# Altium schematic symbol library RES_30.1k_0402.SchLib: 1 symbol
Pins are listed as number, name and electrical type; pins without a type are passive.

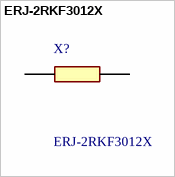
[diagram p0: symbol ERJ-2RKF3012X]

## ERJ-2RKF3012X
designator X?
Panasonic Surface Mount Fixed Resistor 30.1 k 0.1 W +/-100 ppm/C; Geometry.Height: 0.4mm; Manufacturer_Name: Panasonic; Manufacturer_Part_Number: ERJ-2RKF3012X; Mouser Part Number: 667-ERJ-2RKF3012X; Mouser Price/Stock: https://www.mouser.co.uk/ProductDetail/Panasonic/ERJ-2RKF3012X?qs=YMBIwoNQYdWdJYigM0pxkw%3D%3D; Arrow Part Number: *; Arrow Price/Stock: *; Datasheet Link: https://industrial.panasonic.com/cdbs/www-data/pdf/RDA0000/AOA0000C86.pdf
footprint ERJ2RKD1004X
pins: 1, 2